# EAGLE library part 8205A (library 8205A)
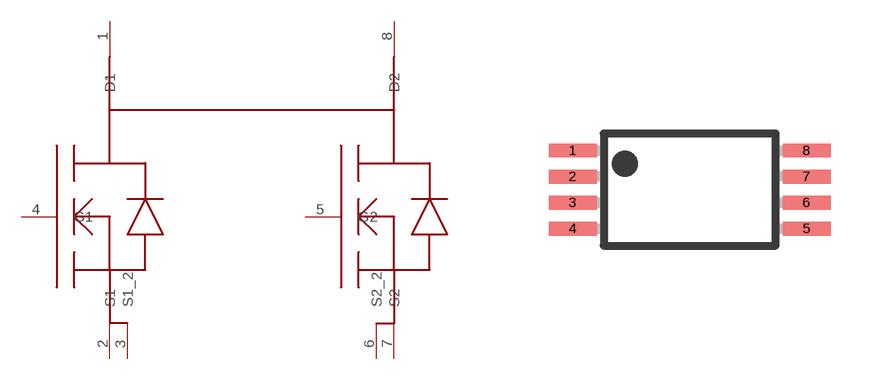
[diagram p0: symbol with the pads of TSSOP8; footprint TSSOP8]

Designator prefix -

## 8205A  [TSSOP8]
1  D1
2  S1
3  S1_2
4  G1
5  G2
6  S2_2
7  S2
8  D2

## Footprint TSSOP8 (pad centres in mm)
Plastic Small Outline
smd 1.2 x 0.35: 1 -2.925,0.975; 2 -2.925,0.325; 3 -2.925,-0.325; 4 -2.925,-0.975; 5 2.925,-0.975; 6 2.925,-0.325; 7 2.925,0.325; 8 2.925,0.975